# Altium footprint library WENZHOU_PJ324M.PcbLib: 1 footprints
Each footprint in its own frame and in the unit in brackets; x right, y up, seen from the top. Pads: shape width x height; smd on the part's side, far side on the other; paste and mask are expansions set on the pad; w line width, h text height; cw(c..) or ccw(c..) is an arc to the next point about the centre after c.
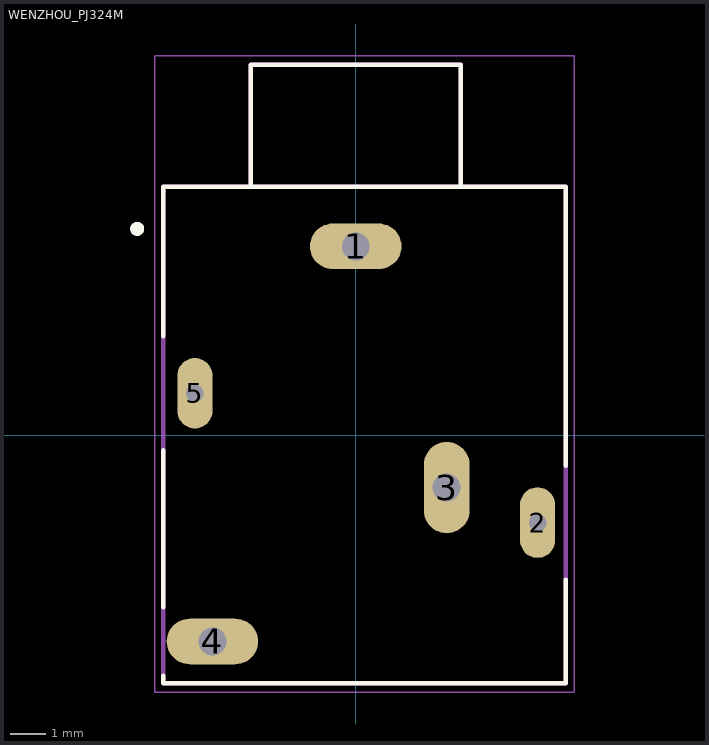
[diagram p0: the footprint, top view; thin cyan lines are the x and y axes]

## WENZHOU_PJ324M [mm]
height 6.3
pads (5):
  oval 2.616x1.308 hole 0.8 square: 1(0,5.4) 4(-4.1,-5.9)
  oval 1.008x2.016 hole 0.5 square: 2(5.2,-2.5) 5(-4.6,1.2)
  oval 1.308x2.616 hole 0.8 square: 3(2.6,-1.5)
Top Overlay:
  circle w0.2: c-6.25,5.9 r0.1
  lines w0.127: -5.5,-6.874 -5.5,-7.1 6,-7.1 6,-4.128 ; -5.5,-4.926 -5.5,-0.428 ; -5.5,2.828 -5.5,7.1 -3,7.1 ; 6,-0.872 6,7.1 3,7.1 ; -3,7.1 3,7.1 ; -3,7.1 -3,10.6 3,10.6 3,7.1
Mechanical 13:
  circle w0.2: c-6.25,5.9 r0.1
  lines w0.127: -3,7.1 -5.5,7.1 -5.5,-7.1 6,-7.1 6,7.1 3,7.1 ; -3,7.1 3,7.1 ; -3,7.1 -3,10.6 3,10.6 3,7.1
Mechanical 15:
  lines w0.05: -5.75,-7.35 -5.75,10.85 6.25,10.85 6.25,-7.35 -5.75,-7.35
3D body "step_temp.STEP": height 6.3, standoff -2.5, extent -5.75,-7.1 5.75,10.6